# EAGLE library part PICAXE18M2 (library picaxe18m2)
PICAXE-18M2 BASIC Microcontroller RS No: ? MRF No: ?
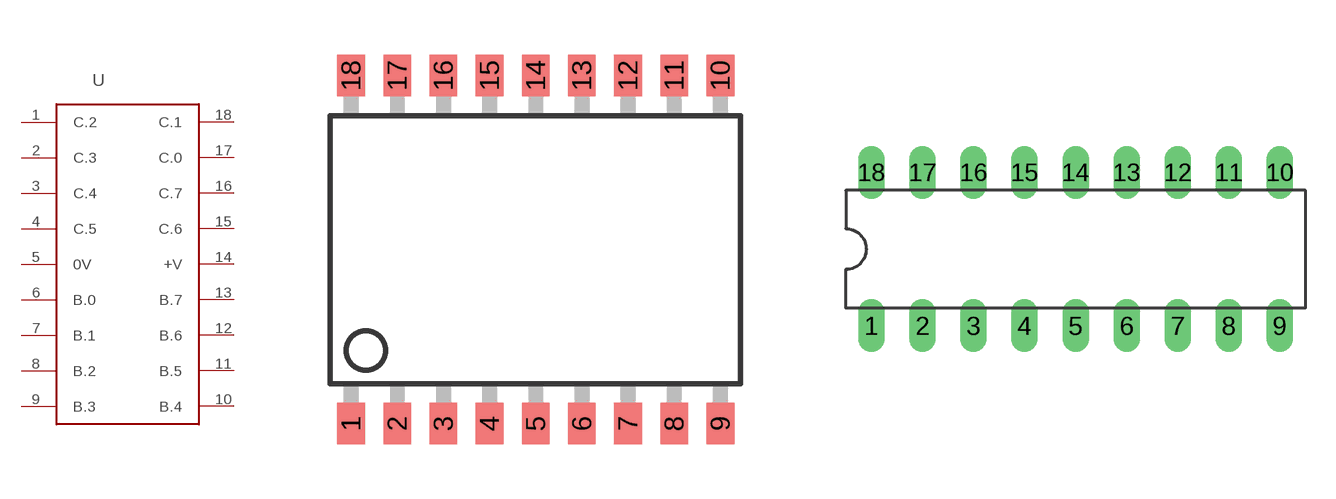
[diagram p0: symbol with the pads of SO-18W; footprints SO-18W, DIL18]

Designator prefix -

## PICAXE18M2SO  [SO-18W]
1  C.2
2  C.3
3  C.4
4  C.5
5  0V  pwr
6  B.0
7  B.1
8  B.2
9  B.3
10  B.4
11  B.5
12  B.6
13  B.7
14  +V  pwr
15  C.6
16  C.7
17  C.0
18  C.1

## PICAXE18M2  [DIL18]
Pads as for SO-18W

## Footprint SO-18W (pad centres in mm)
smd 0.762 x 1.143: 1 -5.08,-4.788; 2 -3.81,-4.788; 3 -2.54,-4.788; 4 -1.27,-4.788; 5 0,-4.788; 6 1.27,-4.788; 7 2.54,-4.788; 8 3.81,-4.788; 9 5.08,-4.788; 10 5.08,4.788; 11 3.81,4.788; 12 2.54,4.788; 13 1.27,4.788; 14 0,4.788; 15 -1.27,4.788; 16 -2.54,4.788; 17 -3.81,4.788; 18 -5.08,4.788

## Footprint DIL18 (pad centres in mm)
drill 0.813 long: 1 -10.16,-3.81; 2 -7.62,-3.81; 3 -5.08,-3.81; 4 -2.54,-3.81; 5 0,-3.81; 6 2.54,-3.81; 7 5.08,-3.81; 8 7.62,-3.81; 9 10.16,-3.81; 10 10.16,3.81; 11 7.62,3.81; 12 5.08,3.81; 13 2.54,3.81; 14 0,3.81; 15 -2.54,3.81; 16 -5.08,3.81; 17 -7.62,3.81; 18 -10.16,3.81